# Altium integrated library TI_Logic_Little_Logic.IntLib: 1164 symbols (part 12 of 35)
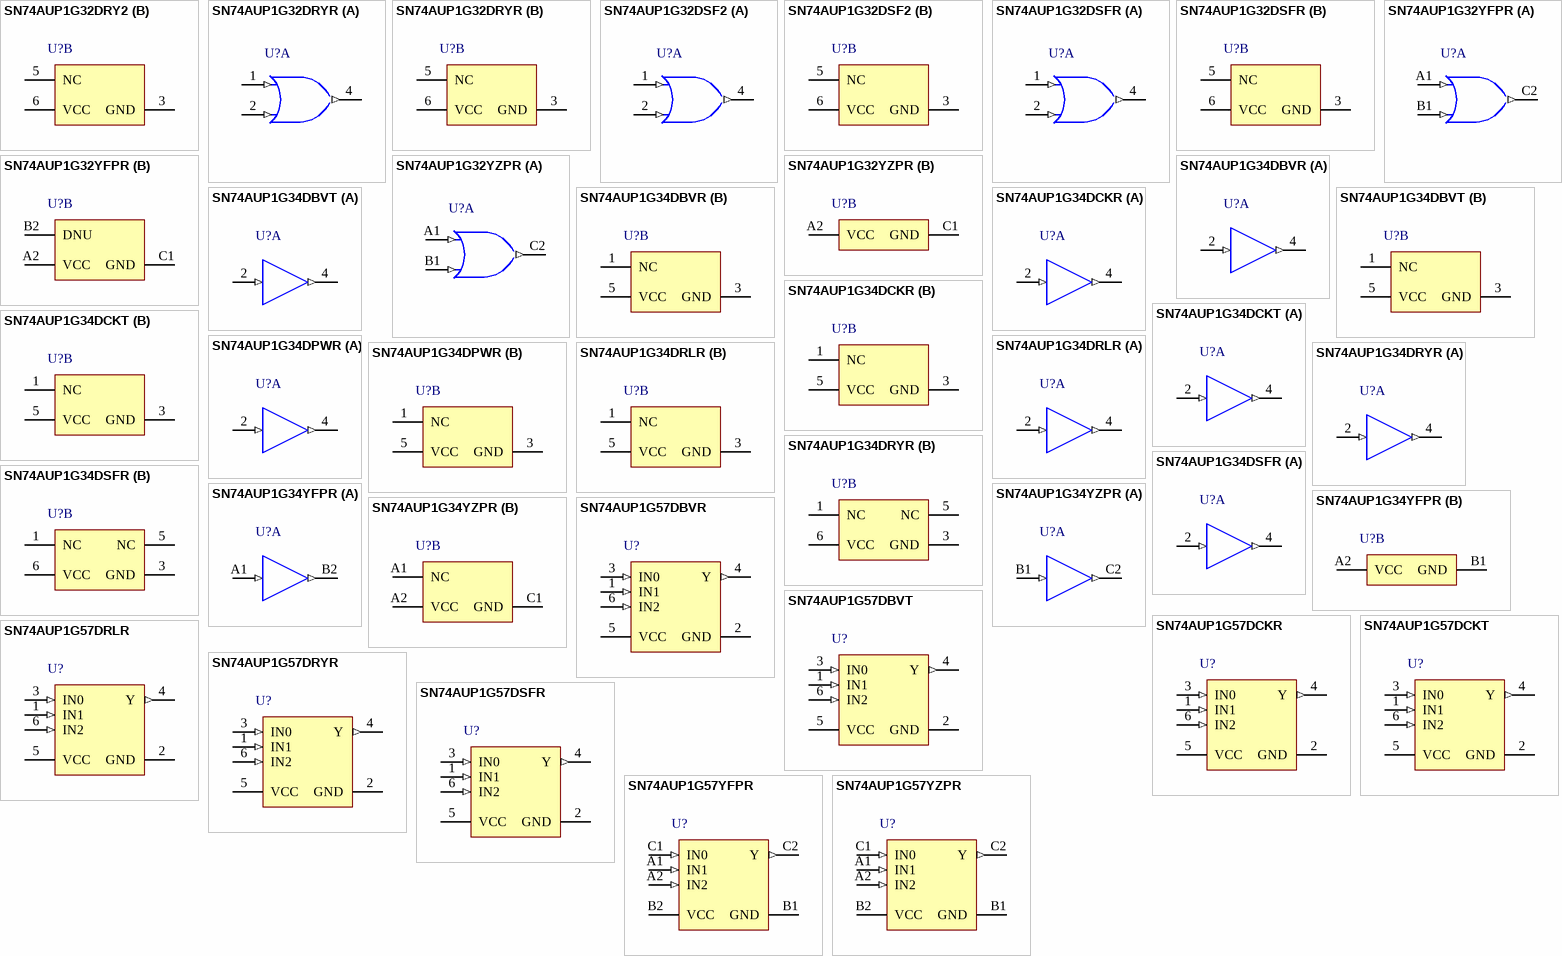
[diagram p71: symbols SN74AUP1G32DRY2 to SN74AUP1G57YZPR]

## SN74AUP1G32YFPR
designator U?
Low-Power Single 2-Input Positive-OR Gate, YZP0006AAAA, LARGE T&R; Generic Part Number: SN74AUP1G32; Manufacturer: Texas Instruments; PartNumber: SN74AUP1G32YFPR; VCC(Min)(V): 0.8; VCC(Max)(V): 3.6; Output Type: CMOS; ICC @ Nom Voltage(Max)(mA): 0.0009; Bits(#): 1; F @ Nom Voltage(Max)(Mhz): 100; Rating: Catalog; Technology Family: AUP; Voltage(Nom)(V): 0.8,1.2,1.5,1.8,2.5,3.3; Schmitt Trigger: No; Output Drive (IOL/IOH)(Max)(mA): 20/-20; tpd @ Nom Voltage(Max)(ns): 32.8,21.6,14.6,11.4,7.9,6.4; Logic: True; Gate Type: OR; Sub-Family: OR Gate; DatasheetVersion: SCES580I; PackageReference: YZP0006AAAA; Supplier 1: Mouser; Supplier Part Number 1: 595-SN74AUP1G32YFPR; Supplier 2: Digi-Key; Supplier Part Number 2: 296-25395-2-ND; Supplier 3: Digi-Key; Supplier Part Number 3: 296-25395-1-ND; Supplier 4: Digi-Key; Supplier Part Number 4: 296-25395-6-ND; Input Type: CMOS; Operating Temperature Range(C): -40 to 85; 3-State Output: No; ComponentLink1Description: Manufacturer URL; ComponentLink1URL: http://www.ti.com/; ComponentLink2Description: Datasheet; ComponentLink2URL: http://www.ti.com/lit/ds/symlink/sn74aup1g32.pdf
footprint YZP0006AAAA (BGA, 6-Balls, Body 1.16x0.76mm, Pitch 0.4mm)
part A pins: A1 A (in) "Input A", B1 B (in) "Input B", C2 Y (out) "Output Y"
part B pins: A2 VCC (power) "Power Pin", B2 DNU "Do not use", C1 GND (power) "Ground"

## SN74AUP1G32YZPR
designator U?
Low-Power Single 2-Input Positive-OR Gate, YZP0005ADAD, LARGE T&R; Generic Part Number: SN74AUP1G32; Manufacturer: Texas Instruments; PartNumber: SN74AUP1G32YZPR; VCC(Min)(V): 0.8; VCC(Max)(V): 3.6; Output Type: CMOS; ICC @ Nom Voltage(Max)(mA): 0.0009; Bits(#): 1; F @ Nom Voltage(Max)(Mhz): 100; Rating: Catalog; Technology Family: AUP; Voltage(Nom)(V): 0.8,1.2,1.5,1.8,2.5,3.3; Schmitt Trigger: No; Output Drive (IOL/IOH)(Max)(mA): 20/-20; tpd @ Nom Voltage(Max)(ns): 32.8,21.6,14.6,11.4,7.9,6.4; Logic: True; Gate Type: OR; Sub-Family: OR Gate; DatasheetVersion: SCES580I; PackageReference: YZP0005ADAD; Supplier 1: Mouser; Supplier Part Number 1: 595-SN74AUP1G32YZPR; Supplier 2: Digi-Key; Supplier Part Number 2: 296-21016-2-ND; Supplier 3: Digi-Key; Supplier Part Number 3: 296-21016-1-ND; Supplier 4: Digi-Key; Supplier Part Number 4: 296-21016-6-ND; Input Type: CMOS; Operating Temperature Range(C): -40 to 85; 3-State Output: No; ComponentLink1Description: Manufacturer URL; ComponentLink1URL: http://www.ti.com/; ComponentLink2Description: Datasheet; ComponentLink2URL: http://www.ti.com/lit/ds/symlink/sn74aup1g32.pdf
footprint YZP0005ADAD (BGA, 5-Balls, Body 1.39x0.89mm, Pitch 0.5mm)
part A pins: A1 A (in), B1 B (in), C2 Y (out)
part B pins: A2 VCC (power), C1 GND (power)

## SN74AUP1G34DBVR
designator U?
Low-Power Single Buffer Gate, DBV0005A, LARGE T&R; Generic Part Number: SN74AUP1G34; Manufacturer: Texas Instruments; PartNumber: SN74AUP1G34DBVR; VCC(Min)(V): 0.8; VCC(Max)(V): 3.6; Output Type: CMOS; ICC @ Nom Voltage(Max)(mA): 0.0009; Bits(#): 1; F @ Nom Voltage(Max)(Mhz): 100; Rating: Catalog; Technology Family: AUP; Voltage(Nom)(V): 0.8,1.2,1.5,1.8,2.5,3.3; Schmitt Trigger: No; Output Drive (IOL/IOH)(Max)(mA): 20/-20; tpd @ Nom Voltage(Max)(ns): 36.3,16.3,11,9.3,6.4,5.3; Logic: True; Sub-Family: Non-Inverting Buffer/Driver; DatasheetVersion: SCES603K; PackageReference: DBV0005A; Supplier 1: Mouser; Supplier Part Number 1: 595-SN74AUP1G34DBVR; Supplier 2: Digi-Key; Supplier Part Number 2: 296-19080-2-ND; Supplier 3: Digi-Key; Supplier Part Number 3: 296-19080-1-ND; Supplier 4: Digi-Key; Supplier Part Number 4: 296-19080-6-ND; Input Type: CMOS; Operating Temperature Range(C): -40 to 85; 3-State Output: No; ComponentLink1Description: Manufacturer URL; ComponentLink1URL: http://www.ti.com/; ComponentLink2Description: Datasheet; ComponentLink2URL: http://www.ti.com/lit/ds/symlink/sn74aup1g34.pdf
footprint DBV0005A_N (SOT23, 5-Leads, Body 3.05x1.75mm, Pitch 0.95mm, IPC Medium Density)
footprint DBV0005A_M (SOT23, 5-Leads, Body 3.05x1.75mm, Pitch 0.95mm, IPC Low Density)
footprint DBV0005A_L (SOT23, 5-Leads, Body 3.05x1.75mm, Pitch 0.95mm, IPC High Density)
part A pins: 2 A (in) "Input", 4 Y (out) "Output"
part B pins: 1 NC "Ground", 3 GND (power) "Ground Pin", 5 VCC (power) "Power Pin"

## SN74AUP1G34DBVT
designator U?
Low-Power Single Buffer Gate, DBV0005A, SMALL T&R; Generic Part Number: SN74AUP1G34; Manufacturer: Texas Instruments; PartNumber: SN74AUP1G34DBVT; VCC(Min)(V): 0.8; VCC(Max)(V): 3.6; Output Type: CMOS; ICC @ Nom Voltage(Max)(mA): 0.0009; Bits(#): 1; F @ Nom Voltage(Max)(Mhz): 100; Rating: Catalog; Technology Family: AUP; Voltage(Nom)(V): 0.8,1.2,1.5,1.8,2.5,3.3; Schmitt Trigger: No; Output Drive (IOL/IOH)(Max)(mA): 20/-20; tpd @ Nom Voltage(Max)(ns): 36.3,16.3,11,9.3,6.4,5.3; Logic: True; Sub-Family: Non-Inverting Buffer/Driver; DatasheetVersion: SCES603K; PackageReference: DBV0005A; Supplier 1: Mouser; Supplier Part Number 1: 595-SN74AUP1G34DBVT; Input Type: CMOS; Operating Temperature Range(C): -40 to 85; 3-State Output: No; ComponentLink1Description: Manufacturer URL; ComponentLink1URL: http://www.ti.com/; ComponentLink2Description: Datasheet; ComponentLink2URL: http://www.ti.com/lit/ds/symlink/sn74aup1g34.pdf
footprint DBV0005A_N (SOT23, 5-Leads, Body 3.05x1.75mm, Pitch 0.95mm, IPC Medium Density)
footprint DBV0005A_M (SOT23, 5-Leads, Body 3.05x1.75mm, Pitch 0.95mm, IPC Low Density)
footprint DBV0005A_L (SOT23, 5-Leads, Body 3.05x1.75mm, Pitch 0.95mm, IPC High Density)
part A pins: 2 A (in) "Input", 4 Y (out) "Output"
part B pins: 1 NC "Ground", 3 GND (power) "Ground Pin", 5 VCC (power) "Power Pin"

## SN74AUP1G34DCKR
designator U?
Low-Power Single Buffer Gate, DCK0005A, LARGE T&R; Generic Part Number: SN74AUP1G34; Manufacturer: Texas Instruments; PartNumber: SN74AUP1G34DCKR; VCC(Min)(V): 0.8; VCC(Max)(V): 3.6; Output Type: CMOS; ICC @ Nom Voltage(Max)(mA): 0.0009; Bits(#): 1; F @ Nom Voltage(Max)(Mhz): 100; Rating: Catalog; Technology Family: AUP; Voltage(Nom)(V): 0.8,1.2,1.5,1.8,2.5,3.3; Schmitt Trigger: No; Output Drive (IOL/IOH)(Max)(mA): 20/-20; tpd @ Nom Voltage(Max)(ns): 36.3,16.3,11,9.3,6.4,5.3; Logic: True; Sub-Family: Non-Inverting Buffer/Driver; DatasheetVersion: SCES603K; PackageReference: DCK0005A; Supplier 1: Mouser; Supplier Part Number 1: 595-SN74AUP1G34DCKR; Supplier 2: Digi-Key; Supplier Part Number 2: 296-19081-2-ND; Supplier 3: Digi-Key; Supplier Part Number 3: 296-19081-1-ND; Supplier 4: Digi-Key; Supplier Part Number 4: 296-19081-6-ND; Input Type: CMOS; Operating Temperature Range(C): -40 to 85; 3-State Output: No; ComponentLink1Description: Manufacturer URL; ComponentLink1URL: http://www.ti.com/; ComponentLink2Description: Datasheet; ComponentLink2URL: http://www.ti.com/lit/ds/symlink/sn74aup1g34.pdf
footprint DCK0005A_N (SOT23, 5-Leads, Body 2.15x1.4mm, Pitch 0.65mm, IPC Medium Density)
footprint DCK0005A_M (SOT23, 5-Leads, Body 2.15x1.4mm, Pitch 0.65mm, IPC Low Density)
footprint DCK0005A_L (SOT23, 5-Leads, Body 2.15x1.4mm, Pitch 0.65mm, IPC High Density)
part A pins: 2 A (in) "Input", 4 Y (out) "Output"
part B pins: 1 NC "Ground", 3 GND (power) "Ground Pin", 5 VCC (power) "Power Pin"

## SN74AUP1G34DCKT
designator U?
Low-Power Single Buffer Gate, DCK0005A, SMALL T&R; Generic Part Number: SN74AUP1G34; Manufacturer: Texas Instruments; PartNumber: SN74AUP1G34DCKT; VCC(Min)(V): 0.8; VCC(Max)(V): 3.6; Output Type: CMOS; ICC @ Nom Voltage(Max)(mA): 0.0009; Bits(#): 1; F @ Nom Voltage(Max)(Mhz): 100; Rating: Catalog; Technology Family: AUP; Voltage(Nom)(V): 0.8,1.2,1.5,1.8,2.5,3.3; Schmitt Trigger: No; Output Drive (IOL/IOH)(Max)(mA): 20/-20; tpd @ Nom Voltage(Max)(ns): 36.3,16.3,11,9.3,6.4,5.3; Logic: True; Sub-Family: Non-Inverting Buffer/Driver; DatasheetVersion: SCES603K; PackageReference: DCK0005A; Supplier 1: Mouser; Supplier Part Number 1: 595-SN74AUP1G34DCKT; Supplier 2: Digi-Key; Supplier Part Number 2: SN74AUP1G34DCKT-ND; Input Type: CMOS; Operating Temperature Range(C): -40 to 85; 3-State Output: No; ComponentLink1Description: Manufacturer URL; ComponentLink1URL: http://www.ti.com/; ComponentLink2Description: Datasheet; ComponentLink2URL: http://www.ti.com/lit/ds/symlink/sn74aup1g34.pdf
footprint DCK0005A_N (SOT23, 5-Leads, Body 2.15x1.4mm, Pitch 0.65mm, IPC Medium Density)
footprint DCK0005A_M (SOT23, 5-Leads, Body 2.15x1.4mm, Pitch 0.65mm, IPC Low Density)
footprint DCK0005A_L (SOT23, 5-Leads, Body 2.15x1.4mm, Pitch 0.65mm, IPC High Density)
part A pins: 2 A (in) "Input", 4 Y (out) "Output"
part B pins: 1 NC "Ground", 3 GND (power) "Ground Pin", 5 VCC (power) "Power Pin"

## SN74AUP1G34DPWR
designator U?
Low-Power Single Buffer Gate, DPW0004A, LARGE T&R; Generic Part Number: SN74AUP1G34; Manufacturer: Texas Instruments; PartNumber: SN74AUP1G34DPWR; VCC(Min)(V): 0.8; VCC(Max)(V): 3.6; Output Type: CMOS; ICC @ Nom Voltage(Max)(mA): 0.0009; Bits(#): 1; F @ Nom Voltage(Max)(Mhz): 100; Rating: Catalog; Technology Family: AUP; Voltage(Nom)(V): 0.8,1.2,1.5,1.8,2.5,3.3; Schmitt Trigger: No; Output Drive (IOL/IOH)(Max)(mA): 20/-20; tpd @ Nom Voltage(Max)(ns): 36.3,16.3,11,9.3,6.4,5.3; Logic: True; Sub-Family: Non-Inverting Buffer/Driver; DatasheetVersion: SCES603K; PackageReference: DPW0004A; Supplier 1: Mouser; Supplier Part Number 1: 595-SN74AUP1G34DPWR; Supplier 2: Digi-Key; Supplier Part Number 2: 296-38023-2-ND; Supplier 3: Digi-Key; Supplier Part Number 3: 296-38023-1-ND; Supplier 4: Digi-Key; Supplier Part Number 4: 296-38023-6-ND; Input Type: CMOS; Operating Temperature Range(C): -40 to 85; 3-State Output: No; ComponentLink1Description: Manufacturer URL; ComponentLink1URL: http://www.ti.com/; ComponentLink2Description: Datasheet; ComponentLink2URL: http://www.ti.com/lit/ds/symlink/sn74aup1g34.pdf
footprint DPW0004A_V (SON, 5-Leads, Body 0.8x0.8mm, TI Recommend)
part A pins: 2 A (in) "Input", 4 Y (out) "Output"
part B pins: 1 NC "Ground", 3 GND (power) "Ground Pin", 5 VCC (power) "Power Pin"

## SN74AUP1G34DRLR
designator U?
Low-Power Single Buffer Gate, DRL0005A, LARGE T&R; Generic Part Number: SN74AUP1G34; Manufacturer: Texas Instruments; PartNumber: SN74AUP1G34DRLR; VCC(Min)(V): 0.8; VCC(Max)(V): 3.6; Output Type: CMOS; ICC @ Nom Voltage(Max)(mA): 0.0009; Bits(#): 1; F @ Nom Voltage(Max)(Mhz): 100; Rating: Catalog; Technology Family: AUP; Voltage(Nom)(V): 0.8,1.2,1.5,1.8,2.5,3.3; Schmitt Trigger: No; Output Drive (IOL/IOH)(Max)(mA): 20/-20; tpd @ Nom Voltage(Max)(ns): 36.3,16.3,11,9.3,6.4,5.3; Logic: True; Sub-Family: Non-Inverting Buffer/Driver; DatasheetVersion: SCES603K; PackageReference: DRL0005A; Supplier 1: Mouser; Supplier Part Number 1: 595-SN74AUP1G34DRLR; Supplier 2: Digi-Key; Supplier Part Number 2: 296-18715-2-ND; Supplier 3: Digi-Key; Supplier Part Number 3: 296-18715-1-ND; Supplier 4: Digi-Key; Supplier Part Number 4: 296-18715-6-ND; Input Type: CMOS; Operating Temperature Range(C): -40 to 85; 3-State Output: No; ComponentLink1Description: Manufacturer URL; ComponentLink1URL: http://www.ti.com/; ComponentLink2Description: Datasheet; ComponentLink2URL: http://www.ti.com/lit/ds/symlink/sn74aup1g34.pdf
footprint DRL0005A_N (SOT23, 5-Leads, Body 1.7x1.3mm, Pitch 0.5mm, IPC Medium Density)
footprint DRL0005A_M (SOT23, 5-Leads, Body 1.7x1.3mm, Pitch 0.5mm, IPC Low Density)
footprint DRL0005A_L (SOT23, 5-Leads, Body 1.7x1.3mm, Pitch 0.5mm, IPC High Density)
part A pins: 2 A (in) "Input", 4 Y (out) "Output"
part B pins: 1 NC "Ground", 3 GND (power) "Ground Pin", 5 VCC (power) "Power Pin"

## SN74AUP1G34DRYR
designator U?
Low-Power Single Buffer Gate, DRY0006A, LARGE T&R; Generic Part Number: SN74AUP1G34; Manufacturer: Texas Instruments; PartNumber: SN74AUP1G34DRYR; VCC(Min)(V): 0.8; VCC(Max)(V): 3.6; Output Type: CMOS; ICC @ Nom Voltage(Max)(mA): 0.0009; Bits(#): 1; F @ Nom Voltage(Max)(Mhz): 100; Rating: Catalog; Technology Family: AUP; Voltage(Nom)(V): 0.8,1.2,1.5,1.8,2.5,3.3; Schmitt Trigger: No; Output Drive (IOL/IOH)(Max)(mA): 20/-20; tpd @ Nom Voltage(Max)(ns): 36.3,16.3,11,9.3,6.4,5.3; Logic: True; Sub-Family: Non-Inverting Buffer/Driver; DatasheetVersion: SCES603K; PackageReference: DRY0006A; Supplier 1: Mouser; Supplier Part Number 1: 595-SN74AUP1G34DRYR; Supplier 2: Digi-Key; Supplier Part Number 2: 296-27380-2-ND; Supplier 3: Digi-Key; Supplier Part Number 3: 296-27380-1-ND; Supplier 4: Digi-Key; Supplier Part Number 4: 296-27380-6-ND; Input Type: CMOS; Operating Temperature Range(C): -40 to 85; 3-State Output: No; ComponentLink1Description: Manufacturer URL; ComponentLink1URL: http://www.ti.com/; ComponentLink2Description: Datasheet; ComponentLink2URL: http://www.ti.com/lit/ds/symlink/sn74aup1g34.pdf
footprint DRY0006A_V (SON, 6-Leads, Body 1.45x1mm, Pitch 0.5mm)
part A pins: 2 A (in) "Input", 4 Y (out) "Output"
part B pins: 1 NC "Not connected", 3 GND (power) "Ground", 5 NC "Not connected", 6 VCC (power) "Power pin"

## SN74AUP1G34DSFR
designator U?
Low-Power Single Buffer Gate, DSF0006A, LARGE T&R; Generic Part Number: SN74AUP1G34; Manufacturer: Texas Instruments; PartNumber: SN74AUP1G34DSFR; VCC(Min)(V): 0.8; VCC(Max)(V): 3.6; Output Type: CMOS; ICC @ Nom Voltage(Max)(mA): 0.0009; Bits(#): 1; F @ Nom Voltage(Max)(Mhz): 100; Rating: Catalog; Technology Family: AUP; Voltage(Nom)(V): 0.8,1.2,1.5,1.8,2.5,3.3; Schmitt Trigger: No; Output Drive (IOL/IOH)(Max)(mA): 20/-20; tpd @ Nom Voltage(Max)(ns): 36.3,16.3,11,9.3,6.4,5.3; Logic: True; Sub-Family: Non-Inverting Buffer/Driver; DatasheetVersion: SCES603K; PackageReference: DSF0006A; Supplier 1: Mouser; Supplier Part Number 1: 595-SN74AUP1G34DSFR; Supplier 2: Digi-Key; Supplier Part Number 2: 296-27276-2-ND; Supplier 3: Digi-Key; Supplier Part Number 3: 296-27276-1-ND; Supplier 4: Digi-Key; Supplier Part Number 4: 296-27276-6-ND; Input Type: CMOS; Operating Temperature Range(C): -40 to 85; 3-State Output: No; ComponentLink1Description: Manufacturer URL; ComponentLink1URL: http://www.ti.com/; ComponentLink2Description: Datasheet; ComponentLink2URL: http://www.ti.com/lit/ds/symlink/sn74aup1g34.pdf
footprint DSF0006A_V (SON, 6-Leads, Body 1x1mm, Pitch 0.35mm, TI Recommend)
part A pins: 2 A (in) "Input", 4 Y (out) "Output"
part B pins: 1 NC "Not connected", 3 GND (power) "Ground", 5 NC "Not connected", 6 VCC (power) "Power pin"

## SN74AUP1G34YFPR
designator U?
Low-Power Single Buffer Gate, YZP0004AAAA, LARGE T&R; Generic Part Number: SN74AUP1G34; Manufacturer: Texas Instruments; PartNumber: SN74AUP1G34YFPR; VCC(Min)(V): 0.8; VCC(Max)(V): 3.6; Output Type: CMOS; ICC @ Nom Voltage(Max)(mA): 0.0009; Bits(#): 1; F @ Nom Voltage(Max)(Mhz): 100; Rating: Catalog; Technology Family: AUP; Voltage(Nom)(V): 0.8,1.2,1.5,1.8,2.5,3.3; Schmitt Trigger: No; Output Drive (IOL/IOH)(Max)(mA): 20/-20; tpd @ Nom Voltage(Max)(ns): 36.3,16.3,11,9.3,6.4,5.3; Logic: True; Sub-Family: Non-Inverting Buffer/Driver; DatasheetVersion: SCES603K; PackageReference: YZP0004AAAA; Supplier 1: Mouser; Supplier Part Number 1: 595-SN74AUP1G34YFPR; Supplier 2: Digi-Key; Supplier Part Number 2: 296-25201-2-ND; Supplier 3: Digi-Key; Supplier Part Number 3: 296-25201-1-ND; Supplier 4: Digi-Key; Supplier Part Number 4: 296-25201-6-ND; Input Type: CMOS; Operating Temperature Range(C): -40 to 85; 3-State Output: No; ComponentLink1Description: Manufacturer URL; ComponentLink1URL: http://www.ti.com/; ComponentLink2Description: Datasheet; ComponentLink2URL: http://www.ti.com/lit/ds/symlink/sn74aup1g34.pdf
footprint YZP0004AAAA (BGA, 4-Balls, Body 0.76x0.76mm, Pitch 0.4mm)
part A pins: A1 A (in) "Input", B2 Y (out) "Output"
part B pins: A2 VCC (power) "Power pin", B1 GND (power) "Ground"

## SN74AUP1G34YZPR
designator U?
Low-Power Single Buffer Gate, YZP0005ADAD, LARGE T&R; Generic Part Number: SN74AUP1G34; Manufacturer: Texas Instruments; PartNumber: SN74AUP1G34YZPR; VCC(Min)(V): 0.8; VCC(Max)(V): 3.6; Output Type: CMOS; ICC @ Nom Voltage(Max)(mA): 0.0009; Bits(#): 1; F @ Nom Voltage(Max)(Mhz): 100; Rating: Catalog; Technology Family: AUP; Voltage(Nom)(V): 0.8,1.2,1.5,1.8,2.5,3.3; Schmitt Trigger: No; Output Drive (IOL/IOH)(Max)(mA): 20/-20; tpd @ Nom Voltage(Max)(ns): 36.3,16.3,11,9.3,6.4,5.3; Logic: True; Sub-Family: Non-Inverting Buffer/Driver; DatasheetVersion: SCES603K; PackageReference: YZP0005ADAD; Supplier 1: Mouser; Supplier Part Number 1: 595-SN74AUP1G34YZPR; Supplier 2: Digi-Key; Supplier Part Number 2: 296-21017-2-ND; Supplier 3: Digi-Key; Supplier Part Number 3: 296-21017-1-ND; Supplier 4: Digi-Key; Supplier Part Number 4: 296-21017-6-ND; Input Type: CMOS; Operating Temperature Range(C): -40 to 85; 3-State Output: No; ComponentLink1Description: Manufacturer URL; ComponentLink1URL: http://www.ti.com/; ComponentLink2Description: Datasheet; ComponentLink2URL: http://www.ti.com/lit/ds/symlink/sn74aup1g34.pdf
footprint YZP0005ADAD (BGA, 5-Balls, Body 1.39x0.89mm, Pitch 0.5mm)
part A pins: B1 A (in) "Input A", C2 Y (out) "Output Y"
part B pins: A1 NC "No connect", A2 VCC (power) "Power Pin", C1 GND (power) "Ground"

## SN74AUP1G57DBVR
designator U?
Low-Power Configurable Multiple-Function Gate, DBV0006A, LARGE T&R; Generic Part Number: SN74AUP1G57; Manufacturer: Texas Instruments; PartNumber: SN74AUP1G57DBVR; VCC(Min)(V): 0.8; VCC(Max)(V): 3.6; Output Type: CMOS; ICC @ Nom Voltage(Max)(mA): 0.0009; Bits(#): 1; F @ Nom Voltage(Max)(Mhz): 100; Rating: Catalog; Technology Family: AUP; Voltage(Nom)(V): 0.8,1.2,1.5,1.8,2.5,3.3; Schmitt Trigger: No; Output Drive (IOL/IOH)(Max)(mA): 20/-20; tpd @ Nom Voltage(Max)(ns): 49.3,21.4,14.4,11.4,8.4,7; Logic: True; Sub-Family: Configurable Logic; DatasheetVersion: SCES503I; PackageReference: DBV0006A; Supplier 1: Mouser; Supplier Part Number 1: 595-SN74AUP1G57DBVR; Supplier 2: Digi-Key; Supplier Part Number 2: 296-19082-2-ND; Supplier 3: Digi-Key; Supplier Part Number 3: 296-19082-1-ND; Supplier 4: Digi-Key; Supplier Part Number 4: 296-19082-6-ND; Input Type: CMOS; Operating Temperature Range(C): -40 to 85; Gate Type: Configurable; 3-State Output: No; ComponentLink1Description: Manufacturer URL; ComponentLink1URL: http://www.ti.com/; ComponentLink2Description: Datasheet; ComponentLink2URL: http://www.ti.com/lit/ds/symlink/sn74aup1g57.pdf
footprint DBV0006A_N (SOT23, 6-Leads, Body 3.05x1.75mm, Pitch 0.95mm, IPC Medium Density)
footprint DBV0006A_M (SOT23, 6-Leads, Body 3.05x1.75mm, Pitch 0.95mm, IPC Low Density)
footprint DBV0006A_L (SOT23, 6-Leads, Body 3.05x1.75mm, Pitch 0.95mm, IPC High Density)
pins: 1 IN1 (in), 2 GND (power), 3 IN0 (in), 4 Y (out), 5 VCC (power), 6 IN2 (in)

## SN74AUP1G57DBVT
designator U?
Low-Power Configurable Multiple-Function Gate, DBV0006A, SMALL T&R; Generic Part Number: SN74AUP1G57; Manufacturer: Texas Instruments; PartNumber: SN74AUP1G57DBVT; VCC(Min)(V): 0.8; VCC(Max)(V): 3.6; Output Type: CMOS; ICC @ Nom Voltage(Max)(mA): 0.0009; Bits(#): 1; F @ Nom Voltage(Max)(Mhz): 100; Rating: Catalog; Technology Family: AUP; Voltage(Nom)(V): 0.8,1.2,1.5,1.8,2.5,3.3; Schmitt Trigger: No; Output Drive (IOL/IOH)(Max)(mA): 20/-20; tpd @ Nom Voltage(Max)(ns): 49.3,21.4,14.4,11.4,8.4,7; Logic: True; Sub-Family: Configurable Logic; DatasheetVersion: SCES503I; PackageReference: DBV0006A; Supplier 1: Mouser; Supplier Part Number 1: 595-SN74AUP1G57DBVT; Supplier 2: Digi-Key; Supplier Part Number 2: SN74AUP1G57DBVT-ND; Input Type: CMOS; Operating Temperature Range(C): -40 to 85; Gate Type: Configurable; 3-State Output: No; ComponentLink1Description: Manufacturer URL; ComponentLink1URL: http://www.ti.com/; ComponentLink2Description: Datasheet; ComponentLink2URL: http://www.ti.com/lit/ds/symlink/sn74aup1g57.pdf
footprint DBV0006A_N (SOT23, 6-Leads, Body 3.05x1.75mm, Pitch 0.95mm, IPC Medium Density)
footprint DBV0006A_M (SOT23, 6-Leads, Body 3.05x1.75mm, Pitch 0.95mm, IPC Low Density)
footprint DBV0006A_L (SOT23, 6-Leads, Body 3.05x1.75mm, Pitch 0.95mm, IPC High Density)
pins: 1 IN1 (in), 2 GND (power), 3 IN0 (in), 4 Y (out), 5 VCC (power), 6 IN2 (in)

## SN74AUP1G57DCKR
designator U?
Low-Power Configurable Multiple-Function Gate, DCK0006A, LARGE T&R; Generic Part Number: SN74AUP1G57; Manufacturer: Texas Instruments; PartNumber: SN74AUP1G57DCKR; VCC(Min)(V): 0.8; VCC(Max)(V): 3.6; Output Type: CMOS; ICC @ Nom Voltage(Max)(mA): 0.0009; Bits(#): 1; F @ Nom Voltage(Max)(Mhz): 100; Rating: Catalog; Technology Family: AUP; Voltage(Nom)(V): 0.8,1.2,1.5,1.8,2.5,3.3; Schmitt Trigger: No; Output Drive (IOL/IOH)(Max)(mA): 20/-20; tpd @ Nom Voltage(Max)(ns): 49.3,21.4,14.4,11.4,8.4,7; Logic: True; Sub-Family: Configurable Logic; DatasheetVersion: SCES503I; PackageReference: DCK0006A; Supplier 1: Mouser; Supplier Part Number 1: 595-SN74AUP1G57DCKR; Supplier 2: Digi-Key; Supplier Part Number 2: 296-19083-2-ND; Supplier 3: Digi-Key; Supplier Part Number 3: 296-19083-1-ND; Supplier 4: Digi-Key; Supplier Part Number 4: 296-19083-6-ND; Input Type: CMOS; Operating Temperature Range(C): -40 to 85; Gate Type: Configurable; 3-State Output: No; ComponentLink1Description: Manufacturer URL; ComponentLink1URL: http://www.ti.com/; ComponentLink2Description: Datasheet; ComponentLink2URL: http://www.ti.com/lit/ds/symlink/sn74aup1g57.pdf
footprint DCK0006A_N (SOT23, 6-Leads, Body 2.15x1.4mm, Pitch 0.65mm, IPC Medium Density)
footprint DCK0006A_M (SOT23, 6-Leads, Body 2.15x1.4mm, Pitch 0.65mm, IPC Low Density)
footprint DCK0006A_L (SOT23, 6-Leads, Body 2.15x1.4mm, Pitch 0.65mm, IPC High Density)
pins: 1 IN1 (in), 2 GND (power), 3 IN0 (in), 4 Y (out), 5 VCC (power), 6 IN2 (in)

## SN74AUP1G57DCKT
designator U?
Low-Power Configurable Multiple-Function Gate, DCK0006A, SMALL T&R; Generic Part Number: SN74AUP1G57; Manufacturer: Texas Instruments; PartNumber: SN74AUP1G57DCKT; VCC(Min)(V): 0.8; VCC(Max)(V): 3.6; Output Type: CMOS; ICC @ Nom Voltage(Max)(mA): 0.0009; Bits(#): 1; F @ Nom Voltage(Max)(Mhz): 100; Rating: Catalog; Technology Family: AUP; Voltage(Nom)(V): 0.8,1.2,1.5,1.8,2.5,3.3; Schmitt Trigger: No; Output Drive (IOL/IOH)(Max)(mA): 20/-20; tpd @ Nom Voltage(Max)(ns): 49.3,21.4,14.4,11.4,8.4,7; Logic: True; Sub-Family: Configurable Logic; DatasheetVersion: SCES503I; PackageReference: DCK0006A; Supplier 1: Mouser; Supplier Part Number 1: 595-SN74AUP1G57DCKT; Supplier 2: Digi-Key; Supplier Part Number 2: SN74AUP1G57DCKT-ND; Input Type: CMOS; Operating Temperature Range(C): -40 to 85; Gate Type: Configurable; 3-State Output: No; ComponentLink1Description: Manufacturer URL; ComponentLink1URL: http://www.ti.com/; ComponentLink2Description: Datasheet; ComponentLink2URL: http://www.ti.com/lit/ds/symlink/sn74aup1g57.pdf
footprint DCK0006A_N (SOT23, 6-Leads, Body 2.15x1.4mm, Pitch 0.65mm, IPC Medium Density)
footprint DCK0006A_M (SOT23, 6-Leads, Body 2.15x1.4mm, Pitch 0.65mm, IPC Low Density)
footprint DCK0006A_L (SOT23, 6-Leads, Body 2.15x1.4mm, Pitch 0.65mm, IPC High Density)
pins: 1 IN1 (in), 2 GND (power), 3 IN0 (in), 4 Y (out), 5 VCC (power), 6 IN2 (in)

## SN74AUP1G57DRLR
designator U?
Low-Power Configurable Multiple-Function Gate, DRL0006A, LARGE T&R; Generic Part Number: SN74AUP1G57; Manufacturer: Texas Instruments; PartNumber: SN74AUP1G57DRLR; VCC(Min)(V): 0.8; VCC(Max)(V): 3.6; Output Type: CMOS; ICC @ Nom Voltage(Max)(mA): 0.0009; Bits(#): 1; F @ Nom Voltage(Max)(Mhz): 100; Rating: Catalog; Technology Family: AUP; Voltage(Nom)(V): 0.8,1.2,1.5,1.8,2.5,3.3; Schmitt Trigger: No; Output Drive (IOL/IOH)(Max)(mA): 20/-20; tpd @ Nom Voltage(Max)(ns): 49.3,21.4,14.4,11.4,8.4,7; Logic: True; Sub-Family: Configurable Logic; DatasheetVersion: SCES503I; PackageReference: DRL0006A; Supplier 1: Mouser; Supplier Part Number 1: 595-SN74AUP1G57DRLR; Supplier 2: Digi-Key; Supplier Part Number 2: 296-18716-2-ND; Supplier 3: Digi-Key; Supplier Part Number 3: 296-18716-1-ND; Supplier 4: Digi-Key; Supplier Part Number 4: 296-18716-6-ND; Input Type: CMOS; Operating Temperature Range(C): -40 to 85; Gate Type: Configurable; 3-State Output: No; ComponentLink1Description: Manufacturer URL; ComponentLink1URL: http://www.ti.com/; ComponentLink2Description: Datasheet; ComponentLink2URL: http://www.ti.com/lit/ds/symlink/sn74aup1g57.pdf
footprint DRL0006A_N (SOT23, 6-Leads, Body 1.7x1.3mm, Pitch 0.5mm, IPC Medium Density)
footprint DRL0006A_M (SOT23, 6-Leads, Body 1.7x1.3mm, Pitch 0.5mm, IPC Low Density)
footprint DRL0006A_L (SOT23, 6-Leads, Body 1.7x1.3mm, Pitch 0.5mm, IPC High Density)
pins: 1 IN1 (in), 2 GND (power), 3 IN0 (in), 4 Y (out), 5 VCC (power), 6 IN2 (in)

## SN74AUP1G57DRYR
designator U?
Low-Power Configurable Multiple-Function Gate, DRY0006A, LARGE T&R; Generic Part Number: SN74AUP1G57; Manufacturer: Texas Instruments; PartNumber: SN74AUP1G57DRYR; VCC(Min)(V): 0.8; VCC(Max)(V): 3.6; Output Type: CMOS; ICC @ Nom Voltage(Max)(mA): 0.0009; Bits(#): 1; F @ Nom Voltage(Max)(Mhz): 100; Rating: Catalog; Technology Family: AUP; Voltage(Nom)(V): 0.8,1.2,1.5,1.8,2.5,3.3; Schmitt Trigger: No; Output Drive (IOL/IOH)(Max)(mA): 20/-20; tpd @ Nom Voltage(Max)(ns): 49.3,21.4,14.4,11.4,8.4,7; Logic: True; Sub-Family: Configurable Logic; DatasheetVersion: SCES503I; PackageReference: DRY0006A; Supplier 1: Mouser; Supplier Part Number 1: 595-SN74AUP1G57DRYR; Supplier 2: Digi-Key; Supplier Part Number 2: 296-27343-2-ND; Supplier 3: Digi-Key; Supplier Part Number 3: 296-27343-1-ND; Supplier 4: Digi-Key; Supplier Part Number 4: 296-27343-6-ND; Input Type: CMOS; Operating Temperature Range(C): -40 to 85; Gate Type: Configurable; 3-State Output: No; ComponentLink1Description: Manufacturer URL; ComponentLink1URL: http://www.ti.com/; ComponentLink2Description: Datasheet; ComponentLink2URL: http://www.ti.com/lit/ds/symlink/sn74aup1g57.pdf
footprint DRY0006A_V (SON, 6-Leads, Body 1.45x1mm, Pitch 0.5mm)
pins: 1 IN1 (in), 2 GND (power), 3 IN0 (in), 4 Y (out), 5 VCC (power), 6 IN2 (in)

## SN74AUP1G57DSFR
designator U?
Low-Power Configurable Multiple-Function Gate, DSF0006A, LARGE T&R; Generic Part Number: SN74AUP1G57; Manufacturer: Texas Instruments; PartNumber: SN74AUP1G57DSFR; VCC(Min)(V): 0.8; VCC(Max)(V): 3.6; Output Type: CMOS; ICC @ Nom Voltage(Max)(mA): 0.0009; Bits(#): 1; F @ Nom Voltage(Max)(Mhz): 100; Rating: Catalog; Technology Family: AUP; Voltage(Nom)(V): 0.8,1.2,1.5,1.8,2.5,3.3; Schmitt Trigger: No; Output Drive (IOL/IOH)(Max)(mA): 20/-20; tpd @ Nom Voltage(Max)(ns): 49.3,21.4,14.4,11.4,8.4,7; Logic: True; Sub-Family: Configurable Logic; DatasheetVersion: SCES503I; PackageReference: DSF0006A; Supplier 1: Mouser; Supplier Part Number 1: 595-SN74AUP1G57DSFR; Supplier 2: Digi-Key; Supplier Part Number 2: 296-27277-2-ND; Supplier 3: Digi-Key; Supplier Part Number 3: 296-27277-1-ND; Supplier 4: Digi-Key; Supplier Part Number 4: 296-27277-6-ND; Input Type: CMOS; Operating Temperature Range(C): -40 to 85; Gate Type: Configurable; 3-State Output: No; ComponentLink1Description: Manufacturer URL; ComponentLink1URL: http://www.ti.com/; ComponentLink2Description: Datasheet; ComponentLink2URL: http://www.ti.com/lit/ds/symlink/sn74aup1g57.pdf
footprint DSF0006A_V (SON, 6-Leads, Body 1x1mm, Pitch 0.35mm, TI Recommend)
pins: 1 IN1 (in), 2 GND (power), 3 IN0 (in), 4 Y (out), 5 VCC (power), 6 IN2 (in)

## SN74AUP1G57YFPR
designator U?
Low-Power Configurable Multiple-Function Gate, YZP0006AAAA, LARGE T&R; Generic Part Number: SN74AUP1G57; Manufacturer: Texas Instruments; PartNumber: SN74AUP1G57YFPR; VCC(Min)(V): 0.8; VCC(Max)(V): 3.6; Output Type: CMOS; ICC @ Nom Voltage(Max)(mA): 0.0009; Bits(#): 1; F @ Nom Voltage(Max)(Mhz): 100; Rating: Catalog; Technology Family: AUP; Voltage(Nom)(V): 0.8,1.2,1.5,1.8,2.5,3.3; Schmitt Trigger: No; Output Drive (IOL/IOH)(Max)(mA): 20/-20; tpd @ Nom Voltage(Max)(ns): 49.3,21.4,14.4,11.4,8.4,7; Logic: True; Sub-Family: Configurable Logic; DatasheetVersion: SCES503I; PackageReference: YZP0006AAAA; Supplier 1: Mouser; Supplier Part Number 1: 595-SN74AUP1G57YFPR; Supplier 2: Digi-Key; Supplier Part Number 2: 296-25396-2-ND; Supplier 3: Digi-Key; Supplier Part Number 3: 296-25396-1-ND; Supplier 4: Digi-Key; Supplier Part Number 4: 296-25396-6-ND; Input Type: CMOS; Operating Temperature Range(C): -40 to 85; Gate Type: Configurable; 3-State Output: No; ComponentLink1Description: Manufacturer URL; ComponentLink1URL: http://www.ti.com/; ComponentLink2Description: Datasheet; ComponentLink2URL: http://www.ti.com/lit/ds/symlink/sn74aup1g57.pdf
footprint YZP0006AAAA (BGA, 6-Balls, Body 1.16x0.76mm, Pitch 0.4mm)
pins: A1 IN1 (in), A2 IN2 (in), B1 GND (power), B2 VCC (power), C1 IN0 (in), C2 Y (out)

## SN74AUP1G57YZPR
designator U?
Low-Power Configurable Multiple-Function Gate, YZP0006ADAD, LARGE T&R; Generic Part Number: SN74AUP1G57; Manufacturer: Texas Instruments; PartNumber: SN74AUP1G57YZPR; VCC(Min)(V): 0.8; VCC(Max)(V): 3.6; Output Type: CMOS; ICC @ Nom Voltage(Max)(mA): 0.0009; Bits(#): 1; F @ Nom Voltage(Max)(Mhz): 100; Rating: Catalog; Technology Family: AUP; Voltage(Nom)(V): 0.8,1.2,1.5,1.8,2.5,3.3; Schmitt Trigger: No; Output Drive (IOL/IOH)(Max)(mA): 20/-20; tpd @ Nom Voltage(Max)(ns): 49.3,21.4,14.4,11.4,8.4,7; Logic: True; Sub-Family: Configurable Logic; DatasheetVersion: SCES503I; PackageReference: YZP0006ADAD; Supplier 1: Mouser; Supplier Part Number 1: 595-SN74AUP1G57YZPR; Supplier 2: Digi-Key; Supplier Part Number 2: 296-17367-2-ND; Supplier 3: Digi-Key; Supplier Part Number 3: 296-17367-1-ND; Input Type: CMOS; Operating Temperature Range(C): -40 to 85; Gate Type: Configurable; 3-State Output: No; ComponentLink1Description: Manufacturer URL; ComponentLink1URL: http://www.ti.com/; ComponentLink2Description: Datasheet; ComponentLink2URL: http://www.ti.com/lit/ds/symlink/sn74aup1g57.pdf
footprint YZP0006ADAD (BGA, 6-Balls, Body 1.39x0.89mm, Pitch 0.5mm)
pins: A1 IN1 (in), A2 IN2 (in), B1 GND (power), B2 VCC (power), C1 IN0 (in), C2 Y (out)

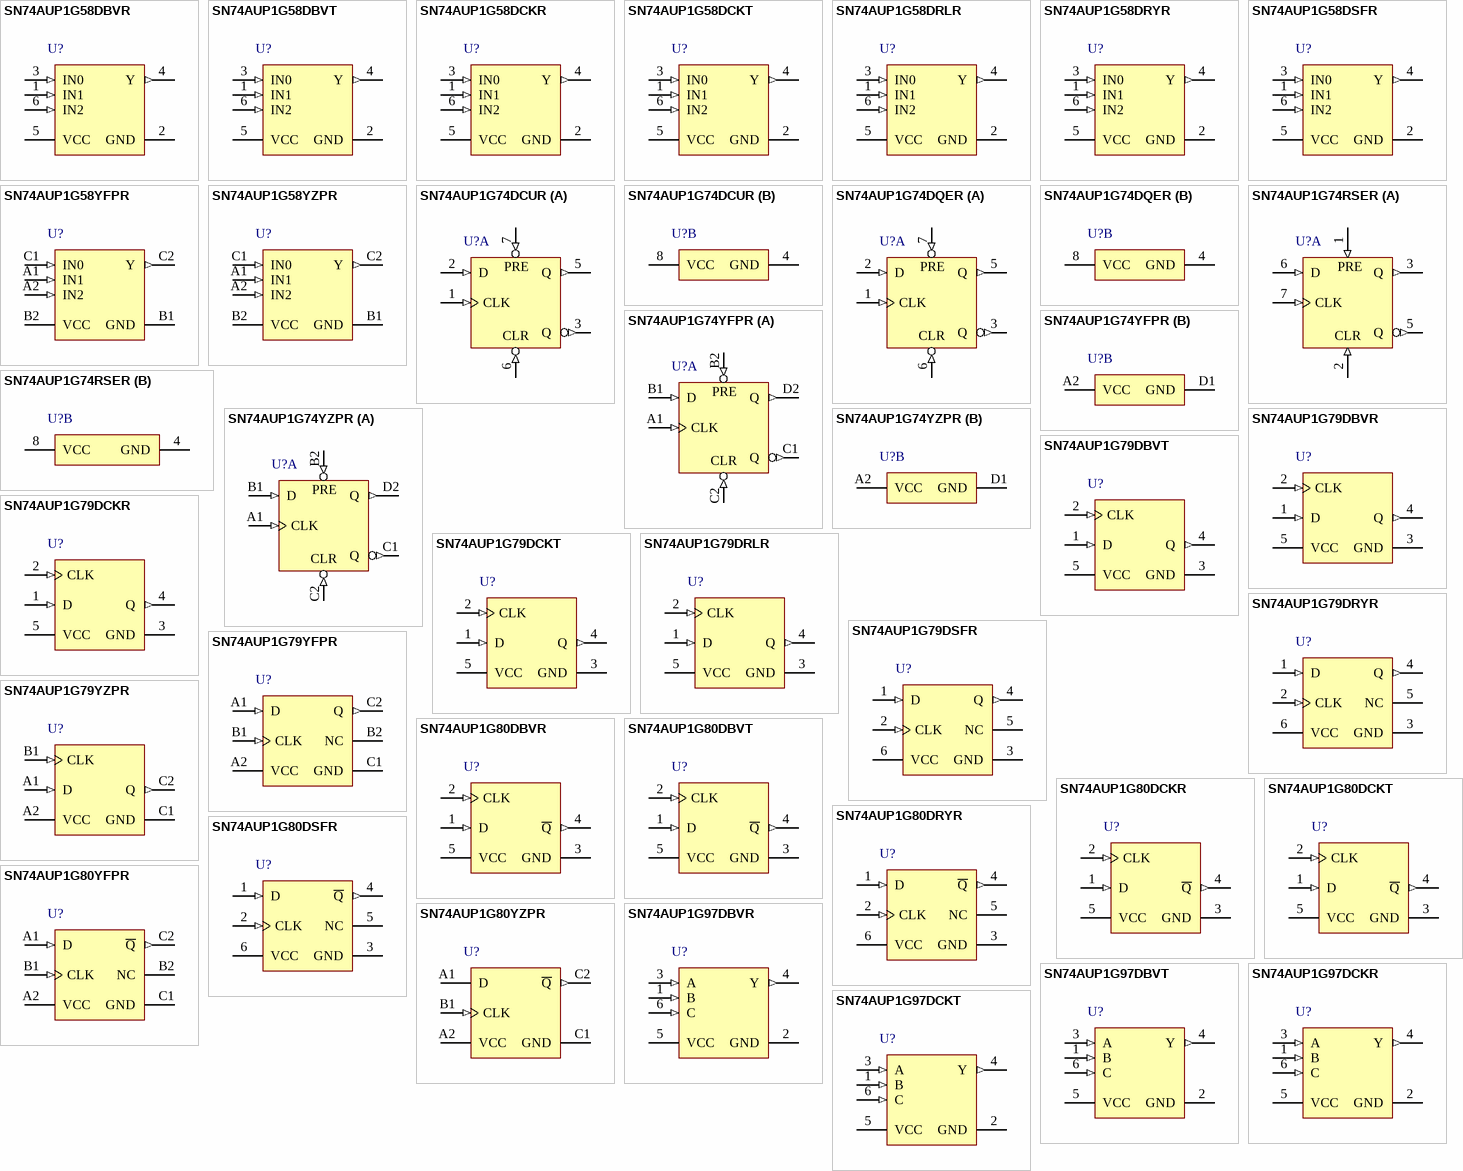
[diagram p20: symbols SN74AUP1G58DBVR to SN74AUP1G97DCKT]

## SN74AUP1G58DBVR
designator U?
Low-Power Configurable Multiple-Function Gate, DBV0006A, LARGE T&R; Generic Part Number: SN74AUP1G58; Manufacturer: Texas Instruments; PartNumber: SN74AUP1G58DBVR; VCC(Min)(V): 0.8; VCC(Max)(V): 3.6; Output Type: CMOS; ICC @ Nom Voltage(Max)(mA): 0.0009; Bits(#): 1; F @ Nom Voltage(Max)(Mhz): 100; Rating: Catalog; Technology Family: AUP; Voltage(Nom)(V): 0.8,1.2,1.5,1.8,2.5,3.3; Schmitt Trigger: No; Output Drive (IOL/IOH)(Max)(mA): 20/-20; tpd @ Nom Voltage(Max)(ns): 38.1,21.4,14.6,11.7,8.7,7.3; Logic: True; Sub-Family: Configurable Logic; DatasheetVersion: SCES504J; PackageReference: DBV0006A; Supplier 1: Mouser; Supplier Part Number 1: 595-SN74AUP1G58DBVR; Supplier 2: Digi-Key; Supplier Part Number 2: 296-16819-2-ND; Supplier 3: Digi-Key; Supplier Part Number 3: 296-16819-1-ND; Supplier 4: Digi-Key; Supplier Part Number 4: 296-16819-6-ND; Input Type: CMOS; Operating Temperature Range(C): -40 to 85; Gate Type: Configurable; 3-State Output: No; ComponentLink1Description: Manufacturer URL; ComponentLink1URL: http://www.ti.com/; ComponentLink2Description: Datasheet; ComponentLink2URL: http://www.ti.com/lit/ds/symlink/sn74aup1g58.pdf
footprint DBV0006A_N (SOT23, 6-Leads, Body 3.05x1.75mm, Pitch 0.95mm, IPC Medium Density)
footprint DBV0006A_M (SOT23, 6-Leads, Body 3.05x1.75mm, Pitch 0.95mm, IPC Low Density)
footprint DBV0006A_L (SOT23, 6-Leads, Body 3.05x1.75mm, Pitch 0.95mm, IPC High Density)
pins: 1 IN1 (in), 2 GND (power), 3 IN0 (in), 4 Y (out), 5 VCC (power), 6 IN2 (in)

## SN74AUP1G58DBVT
designator U?
Low-Power Configurable Multiple-Function Gate, DBV0006A, SMALL T&R; Generic Part Number: SN74AUP1G58; Manufacturer: Texas Instruments; PartNumber: SN74AUP1G58DBVT; VCC(Min)(V): 0.8; VCC(Max)(V): 3.6; Output Type: CMOS; ICC @ Nom Voltage(Max)(mA): 0.0009; Bits(#): 1; F @ Nom Voltage(Max)(Mhz): 100; Rating: Catalog; Technology Family: AUP; Voltage(Nom)(V): 0.8,1.2,1.5,1.8,2.5,3.3; Schmitt Trigger: No; Output Drive (IOL/IOH)(Max)(mA): 20/-20; tpd @ Nom Voltage(Max)(ns): 38.1,21.4,14.6,11.7,8.7,7.3; Logic: True; Sub-Family: Configurable Logic; DatasheetVersion: SCES504J; PackageReference: DBV0006A; Supplier 1: Mouser; Supplier Part Number 1: 595-SN74AUP1G58DBVT; Supplier 2: Digi-Key; Supplier Part Number 2: SN74AUP1G58DBVT-ND; Input Type: CMOS; Operating Temperature Range(C): -40 to 85; Gate Type: Configurable; 3-State Output: No; ComponentLink1Description: Manufacturer URL; ComponentLink1URL: http://www.ti.com/; ComponentLink2Description: Datasheet; ComponentLink2URL: http://www.ti.com/lit/ds/symlink/sn74aup1g58.pdf
footprint DBV0006A_N (SOT23, 6-Leads, Body 3.05x1.75mm, Pitch 0.95mm, IPC Medium Density)
footprint DBV0006A_M (SOT23, 6-Leads, Body 3.05x1.75mm, Pitch 0.95mm, IPC Low Density)
footprint DBV0006A_L (SOT23, 6-Leads, Body 3.05x1.75mm, Pitch 0.95mm, IPC High Density)
pins: 1 IN1 (in), 2 GND (power), 3 IN0 (in), 4 Y (out), 5 VCC (power), 6 IN2 (in)

## SN74AUP1G58DCKR
designator U?
Low-Power Configurable Multiple-Function Gate, DCK0006A, LARGE T&R; Generic Part Number: SN74AUP1G58; Manufacturer: Texas Instruments; PartNumber: SN74AUP1G58DCKR; VCC(Min)(V): 0.8; VCC(Max)(V): 3.6; Output Type: CMOS; ICC @ Nom Voltage(Max)(mA): 0.0009; Bits(#): 1; F @ Nom Voltage(Max)(Mhz): 100; Rating: Catalog; Technology Family: AUP; Voltage(Nom)(V): 0.8,1.2,1.5,1.8,2.5,3.3; Schmitt Trigger: No; Output Drive (IOL/IOH)(Max)(mA): 20/-20; tpd @ Nom Voltage(Max)(ns): 38.1,21.4,14.6,11.7,8.7,7.3; Logic: True; Sub-Family: Configurable Logic; DatasheetVersion: SCES504J; PackageReference: DCK0006A; Supplier 1: Mouser; Supplier Part Number 1: 595-SN74AUP1G58DCKR; Supplier 2: Digi-Key; Supplier Part Number 2: 296-16820-2-ND; Supplier 3: Digi-Key; Supplier Part Number 3: 296-16820-1-ND; Supplier 4: Digi-Key; Supplier Part Number 4: 296-16820-6-ND; Input Type: CMOS; Operating Temperature Range(C): -40 to 85; Gate Type: Configurable; 3-State Output: No; ComponentLink1Description: Manufacturer URL; ComponentLink1URL: http://www.ti.com/; ComponentLink2Description: Datasheet; ComponentLink2URL: http://www.ti.com/lit/ds/symlink/sn74aup1g58.pdf
footprint DCK0006A_N (SOT23, 6-Leads, Body 2.15x1.4mm, Pitch 0.65mm, IPC Medium Density)
footprint DCK0006A_M (SOT23, 6-Leads, Body 2.15x1.4mm, Pitch 0.65mm, IPC Low Density)
footprint DCK0006A_L (SOT23, 6-Leads, Body 2.15x1.4mm, Pitch 0.65mm, IPC High Density)
pins: 1 IN1 (in), 2 GND (power), 3 IN0 (in), 4 Y (out), 5 VCC (power), 6 IN2 (in)

## SN74AUP1G58DCKT
designator U?
Low-Power Configurable Multiple-Function Gate, DCK0006A, SMALL T&R; Generic Part Number: SN74AUP1G58; Manufacturer: Texas Instruments; PartNumber: SN74AUP1G58DCKT; VCC(Min)(V): 0.8; VCC(Max)(V): 3.6; Output Type: CMOS; ICC @ Nom Voltage(Max)(mA): 0.0009; Bits(#): 1; F @ Nom Voltage(Max)(Mhz): 100; Rating: Catalog; Technology Family: AUP; Voltage(Nom)(V): 0.8,1.2,1.5,1.8,2.5,3.3; Schmitt Trigger: No; Output Drive (IOL/IOH)(Max)(mA): 20/-20; tpd @ Nom Voltage(Max)(ns): 38.1,21.4,14.6,11.7,8.7,7.3; Logic: True; Sub-Family: Configurable Logic; DatasheetVersion: SCES504J; PackageReference: DCK0006A; Supplier 1: Mouser; Supplier Part Number 1: 595-SN74AUP1G58DCKT; Supplier 2: Digi-Key; Supplier Part Number 2: SN74AUP1G58DCKT-ND; Input Type: CMOS; Operating Temperature Range(C): -40 to 85; Gate Type: Configurable; 3-State Output: No; ComponentLink1Description: Manufacturer URL; ComponentLink1URL: http://www.ti.com/; ComponentLink2Description: Datasheet; ComponentLink2URL: http://www.ti.com/lit/ds/symlink/sn74aup1g58.pdf
footprint DCK0006A_N (SOT23, 6-Leads, Body 2.15x1.4mm, Pitch 0.65mm, IPC Medium Density)
footprint DCK0006A_M (SOT23, 6-Leads, Body 2.15x1.4mm, Pitch 0.65mm, IPC Low Density)
footprint DCK0006A_L (SOT23, 6-Leads, Body 2.15x1.4mm, Pitch 0.65mm, IPC High Density)
pins: 1 IN1 (in), 2 GND (power), 3 IN0 (in), 4 Y (out), 5 VCC (power), 6 IN2 (in)

## SN74AUP1G58DRLR
designator U?
Low-Power Configurable Multiple-Function Gate, DRL0006A, LARGE T&R; Generic Part Number: SN74AUP1G58; Manufacturer: Texas Instruments; PartNumber: SN74AUP1G58DRLR; VCC(Min)(V): 0.8; VCC(Max)(V): 3.6; Output Type: CMOS; ICC @ Nom Voltage(Max)(mA): 0.0009; Bits(#): 1; F @ Nom Voltage(Max)(Mhz): 100; Rating: Catalog; Technology Family: AUP; Voltage(Nom)(V): 0.8,1.2,1.5,1.8,2.5,3.3; Schmitt Trigger: No; Output Drive (IOL/IOH)(Max)(mA): 20/-20; tpd @ Nom Voltage(Max)(ns): 38.1,21.4,14.6,11.7,8.7,7.3; Logic: True; Sub-Family: Configurable Logic; DatasheetVersion: SCES504J; PackageReference: DRL0006A; Supplier 1: Mouser; Supplier Part Number 1: 595-SN74AUP1G58DRLR; Supplier 2: Digi-Key; Supplier Part Number 2: 296-18612-2-ND; Supplier 3: Digi-Key; Supplier Part Number 3: 296-18612-1-ND; Supplier 4: Digi-Key; Supplier Part Number 4: 296-18612-6-ND; Input Type: CMOS; Operating Temperature Range(C): -40 to 85; Gate Type: Configurable; 3-State Output: No; ComponentLink1Description: Manufacturer URL; ComponentLink1URL: http://www.ti.com/; ComponentLink2Description: Datasheet; ComponentLink2URL: http://www.ti.com/lit/ds/symlink/sn74aup1g58.pdf
footprint DRL0006A_N (SOT23, 6-Leads, Body 1.7x1.3mm, Pitch 0.5mm, IPC Medium Density)
footprint DRL0006A_M (SOT23, 6-Leads, Body 1.7x1.3mm, Pitch 0.5mm, IPC Low Density)
footprint DRL0006A_L (SOT23, 6-Leads, Body 1.7x1.3mm, Pitch 0.5mm, IPC High Density)
pins: 1 IN1 (in), 2 GND (power), 3 IN0 (in), 4 Y (out), 5 VCC (power), 6 IN2 (in)

## SN74AUP1G58DRYR
designator U?
Low-Power Configurable Multiple-Function Gate, DRY0006A, LARGE T&R; Generic Part Number: SN74AUP1G58; Manufacturer: Texas Instruments; PartNumber: SN74AUP1G58DRYR; VCC(Min)(V): 0.8; VCC(Max)(V): 3.6; Output Type: CMOS; ICC @ Nom Voltage(Max)(mA): 0.0009; Bits(#): 1; F @ Nom Voltage(Max)(Mhz): 100; Rating: Catalog; Technology Family: AUP; Voltage(Nom)(V): 0.8,1.2,1.5,1.8,2.5,3.3; Schmitt Trigger: No; Output Drive (IOL/IOH)(Max)(mA): 20/-20; tpd @ Nom Voltage(Max)(ns): 38.1,21.4,14.6,11.7,8.7,7.3; Logic: True; Sub-Family: Configurable Logic; DatasheetVersion: SCES504J; PackageReference: DRY0006A; Supplier 1: Mouser; Supplier Part Number 1: 595-SN74AUP1G58DRYR; Supplier 2: Digi-Key; Supplier Part Number 2: 296-27278-2-ND; Supplier 3: Digi-Key; Supplier Part Number 3: 296-27278-1-ND; Supplier 4: Digi-Key; Supplier Part Number 4: 296-27278-6-ND; Input Type: CMOS; Operating Temperature Range(C): -40 to 85; Gate Type: Configurable; 3-State Output: No; ComponentLink1Description: Manufacturer URL; ComponentLink1URL: http://www.ti.com/; ComponentLink2Description: Datasheet; ComponentLink2URL: http://www.ti.com/lit/ds/symlink/sn74aup1g58.pdf
footprint DRY0006A_V (SON, 6-Leads, Body 1.45x1mm, Pitch 0.5mm)
pins: 1 IN1 (in), 2 GND (power), 3 IN0 (in), 4 Y (out), 5 VCC (power), 6 IN2 (in)

## SN74AUP1G58DSFR
designator U?
Low-Power Configurable Multiple-Function Gate, DSF0006A, LARGE T&R; Generic Part Number: SN74AUP1G58; Manufacturer: Texas Instruments; PartNumber: SN74AUP1G58DSFR; VCC(Min)(V): 0.8; VCC(Max)(V): 3.6; Output Type: CMOS; ICC @ Nom Voltage(Max)(mA): 0.0009; Bits(#): 1; F @ Nom Voltage(Max)(Mhz): 100; Rating: Catalog; Technology Family: AUP; Voltage(Nom)(V): 0.8,1.2,1.5,1.8,2.5,3.3; Schmitt Trigger: No; Output Drive (IOL/IOH)(Max)(mA): 20/-20; tpd @ Nom Voltage(Max)(ns): 38.1,21.4,14.6,11.7,8.7,7.3; Logic: True; Sub-Family: Configurable Logic; DatasheetVersion: SCES504J; PackageReference: DSF0006A; Supplier 1: Mouser; Supplier Part Number 1: 595-SN74AUP1G58DSFR; Supplier 2: Digi-Key; Supplier Part Number 2: 296-27279-2-ND; Supplier 3: Digi-Key; Supplier Part Number 3: 296-27279-1-ND; Supplier 4: Digi-Key; Supplier Part Number 4: 296-27279-6-ND; Input Type: CMOS; Operating Temperature Range(C): -40 to 85; Gate Type: Configurable; 3-State Output: No; ComponentLink1Description: Manufacturer URL; ComponentLink1URL: http://www.ti.com/; ComponentLink2Description: Datasheet; ComponentLink2URL: http://www.ti.com/lit/ds/symlink/sn74aup1g58.pdf
footprint DSF0006A_V (SON, 6-Leads, Body 1x1mm, Pitch 0.35mm, TI Recommend)
pins: 1 IN1 (in), 2 GND (power), 3 IN0 (in), 4 Y (out), 5 VCC (power), 6 IN2 (in)

## SN74AUP1G58YFPR
designator U?
Low-Power Configurable Multiple-Function Gate, YZP0006AAAA, LARGE T&R; Generic Part Number: SN74AUP1G58; Manufacturer: Texas Instruments; PartNumber: SN74AUP1G58YFPR; VCC(Min)(V): 0.8; VCC(Max)(V): 3.6; Output Type: CMOS; ICC @ Nom Voltage(Max)(mA): 0.0009; Bits(#): 1; F @ Nom Voltage(Max)(Mhz): 100; Rating: Catalog; Technology Family: AUP; Voltage(Nom)(V): 0.8,1.2,1.5,1.8,2.5,3.3; Schmitt Trigger: No; Output Drive (IOL/IOH)(Max)(mA): 20/-20; tpd @ Nom Voltage(Max)(ns): 38.1,21.4,14.6,11.7,8.7,7.3; Logic: True; Sub-Family: Configurable Logic; DatasheetVersion: SCES504J; PackageReference: YZP0006AAAA; Supplier 1: Mouser; Supplier Part Number 1: 595-SN74AUP1G58YFPR; Supplier 2: Digi-Key; Supplier Part Number 2: 296-25397-2-ND; Supplier 3: Digi-Key; Supplier Part Number 3: 296-25397-1-ND; Supplier 4: Digi-Key; Supplier Part Number 4: 296-25397-6-ND; Input Type: CMOS; Operating Temperature Range(C): -40 to 85; Gate Type: Configurable; 3-State Output: No; ComponentLink1Description: Manufacturer URL; ComponentLink1URL: http://www.ti.com/; ComponentLink2Description: Datasheet; ComponentLink2URL: http://www.ti.com/lit/ds/symlink/sn74aup1g58.pdf
footprint YZP0006AAAA (BGA, 6-Balls, Body 1.16x0.76mm, Pitch 0.4mm)
pins: A1 IN1 (in), A2 IN2 (in), B1 GND (power), B2 VCC (power), C1 IN0 (in), C2 Y (out)

## SN74AUP1G58YZPR
designator U?
Low-Power Configurable Multiple-Function Gate, YZP0006ADAD, LARGE T&R; Generic Part Number: SN74AUP1G58; Manufacturer: Texas Instruments; PartNumber: SN74AUP1G58YZPR; VCC(Min)(V): 0.8; VCC(Max)(V): 3.6; Output Type: CMOS; ICC @ Nom Voltage(Max)(mA): 0.0009; Bits(#): 1; F @ Nom Voltage(Max)(Mhz): 100; Rating: Catalog; Technology Family: AUP; Voltage(Nom)(V): 0.8,1.2,1.5,1.8,2.5,3.3; Schmitt Trigger: No; Output Drive (IOL/IOH)(Max)(mA): 20/-20; tpd @ Nom Voltage(Max)(ns): 38.1,21.4,14.6,11.7,8.7,7.3; Logic: True; Sub-Family: Configurable Logic; DatasheetVersion: SCES504J; PackageReference: YZP0006ADAD; Supplier 1: Mouser; Supplier Part Number 1: 595-SN74AUP1G58YZPR; Supplier 2: Digi-Key; Supplier Part Number 2: 296-17368-2-ND; Supplier 3: Digi-Key; Supplier Part Number 3: 296-17368-1-ND; Input Type: CMOS; Operating Temperature Range(C): -40 to 85; Gate Type: Configurable; 3-State Output: No; ComponentLink1Description: Manufacturer URL; ComponentLink1URL: http://www.ti.com/; ComponentLink2Description: Datasheet; ComponentLink2URL: http://www.ti.com/lit/ds/symlink/sn74aup1g58.pdf
footprint YZP0006ADAD (BGA, 6-Balls, Body 1.39x0.89mm, Pitch 0.5mm)
pins: A1 IN1 (in), A2 IN2 (in), B1 GND (power), B2 VCC (power), C1 IN0 (in), C2 Y (out)

## SN74AUP1G74DCUR
designator U?
Low-Power Single Positive-Edge-Triggered D-Type Flip-Flop, DCU0008A, LARGE T&R; Generic Part Number: SN74AUP1G74; Manufacturer: Texas Instruments; PartNumber: SN74AUP1G74DCUR; VCC(Min)(V): 0.8; VCC(Max)(V): 3.6; Output Type: CMOS; ICC @ Nom Voltage(Max)(mA): 0.0009; Bits(#): 1; F @ Nom Voltage(Max)(Mhz): 100; Rating: Catalog; Technology Family: AUP; Voltage(Nom)(V): 0.8,1.2,1.5,1.8,2.5,3.3; Schmitt Trigger: No; Output Drive (IOL/IOH)(Max)(mA): 20/-20; tpd @ Nom Voltage(Max)(ns): 38,26,17,13,9,7; Logic: True; DatasheetVersion: SCES644C; PackageReference: DCU0008A; Supplier 1: Mouser; Supplier Part Number 1: 595-SN74AUP1G74DCUR; Supplier 2: Digi-Key; Supplier Part Number 2: 296-19761-2-ND; Supplier 3: Digi-Key; Supplier Part Number 3: 296-19761-1-ND; Supplier 4: Digi-Key; Supplier Part Number 4: 296-19761-6-ND; Input Type: CMOS; Operating Temperature Range(C): -40 to 85; 3-State Output: No; Sub-Family: D-Type Flip-Flop; ComponentLink1Description: Manufacturer URL; ComponentLink1URL: http://www.ti.com/; ComponentLink2Description: Datasheet; ComponentLink2URL: http://www.ti.com/lit/ds/symlink/sn74aup1g74.pdf
footprint DCU0008A_N (SOP, 8-Leads, Body 2.4x2.1mm, Pitch 0.5mm, IPC Medium Density)
footprint DCU0008A_M (SOP, 8-Leads, Body 2.4x2.1mm, Pitch 0.5mm, IPC Low Density)
footprint DCU0008A_L (SOP, 8-Leads, Body 2.4x2.1mm, Pitch 0.5mm, IPC High Density)
part A pins: 1 CLK (in) "Clock input", 2 D (in) "Input", 3 Q (out) "Inverted output", 5 Q (out) "Output", 6 ~{CLR} (in) "Clear input - Pull low to set Q output low", 7 ~{PRE} (in) "Preset input - Pull low to set Q output high"
part B pins: 4 GND (power) "Ground", 8 VCC (power) "Supply"
part A text: PRE; CLR

## SN74AUP1G74DQER
designator U?
Low-Power Single Positive-Edge-Triggered D-Type Flip-Flop, DQE0008A, LARGE T&R; Generic Part Number: SN74AUP1G74; Manufacturer: Texas Instruments; PartNumber: SN74AUP1G74DQER; VCC(Min)(V): 0.8; VCC(Max)(V): 3.6; Output Type: CMOS; ICC @ Nom Voltage(Max)(mA): 0.0009; Bits(#): 1; F @ Nom Voltage(Max)(Mhz): 100; Rating: Catalog; Technology Family: AUP; Voltage(Nom)(V): 0.8,1.2,1.5,1.8,2.5,3.3; Schmitt Trigger: No; Output Drive (IOL/IOH)(Max)(mA): 20/-20; tpd @ Nom Voltage(Max)(ns): 38,26,17,13,9,7; Logic: True; DatasheetVersion: SCES644C; PackageReference: DQE0008A; Supplier 1: Mouser; Supplier Part Number 1: 595-SN74AUP1G74DQER; Supplier 2: Digi-Key; Supplier Part Number 2: 296-25563-2-ND; Supplier 3: Digi-Key; Supplier Part Number 3: 296-25563-1-ND; Supplier 4: Digi-Key; Supplier Part Number 4: 296-25563-6-ND; Input Type: CMOS; Operating Temperature Range(C): -40 to 85; 3-State Output: No; Sub-Family: D-Type Flip-Flop; ComponentLink1Description: Manufacturer URL; ComponentLink1URL: http://www.ti.com/; ComponentLink2Description: Datasheet; ComponentLink2URL: http://www.ti.com/lit/ds/symlink/sn74aup1g74.pdf
footprint DQE0008A_V (SON, 8-Leads, Body 1.4x1mm, Pitch 0.35mm, TI Recommend)
part A pins: 1 CLK (in) "Clock input", 2 D (in) "Input", 3 Q (out) "Inverted output", 5 Q (out) "Output", 6 ~{CLR} (in) "Clear input - Pull low to set Q output low", 7 ~{PRE} (in) "Preset input - Pull low to set Q output high"
part B pins: 4 GND (power) "Ground", 8 VCC (power) "Supply"
part A text: PRE; CLR

## SN74AUP1G74RSER
designator U?
Low-Power Single Positive-Edge-Triggered D-Type Flip-Flop, RSE0008A, LARGE T&R; Generic Part Number: SN74AUP1G74; Manufacturer: Texas Instruments; PartNumber: SN74AUP1G74RSER; VCC(Min)(V): 0.8; VCC(Max)(V): 3.6; Output Type: CMOS; ICC @ Nom Voltage(Max)(mA): 0.0009; Bits(#): 1; F @ Nom Voltage(Max)(Mhz): 100; Rating: Catalog; Technology Family: AUP; Voltage(Nom)(V): 0.8,1.2,1.5,1.8,2.5,3.3; Schmitt Trigger: No; Output Drive (IOL/IOH)(Max)(mA): 20/-20; tpd @ Nom Voltage(Max)(ns): 38,26,17,13,9,7; Logic: True; DatasheetVersion: SCES644C; PackageReference: RSE0008A; Supplier 1: Mouser; Supplier Part Number 1: 595-SN74AUP1G74RSER; Supplier 2: Digi-Key; Supplier Part Number 2: 296-27280-2-ND; Supplier 3: Digi-Key; Supplier Part Number 3: 296-27280-1-ND; Supplier 4: Digi-Key; Supplier Part Number 4: 296-27280-6-ND; Input Type: CMOS; Operating Temperature Range(C): -40 to 85; 3-State Output: No; Sub-Family: D-Type Flip-Flop; ComponentLink1Description: Manufacturer URL; ComponentLink1URL: http://www.ti.com/; ComponentLink2Description: Datasheet; ComponentLink2URL: http://www.ti.com/lit/ds/symlink/sn74aup1g74.pdf
footprint RSE0008A_V (QFN, 8-Leads, Body 1.5x1.5mm, Pitch 0.5mm, TI Recommend)
part A pins: 1 ~{PRE} (in), 2 ~{CLR} (in), 3 Q (out), 5 Q (out), 6 D (in), 7 CLK (in)
part B pins: 4 GND (power), 8 VCC (power)
part A text: PRE; CLR

## SN74AUP1G74YFPR
designator U?
Low-Power Single Positive-Edge-Triggered D-Type Flip-Flop, YZP0008AAAA, LARGE T&R; Generic Part Number: SN74AUP1G74; Manufacturer: Texas Instruments; PartNumber: SN74AUP1G74YFPR; VCC(Min)(V): 0.8; VCC(Max)(V): 3.6; Output Type: CMOS; ICC @ Nom Voltage(Max)(mA): 0.0009; Bits(#): 1; F @ Nom Voltage(Max)(Mhz): 100; Rating: Catalog; Technology Family: AUP; Voltage(Nom)(V): 0.8,1.2,1.5,1.8,2.5,3.3; Schmitt Trigger: No; Output Drive (IOL/IOH)(Max)(mA): 20/-20; tpd @ Nom Voltage(Max)(ns): 38,26,17,13,9,7; Logic: True; DatasheetVersion: SCES644C; PackageReference: YZP0008AAAA; Supplier 1: Mouser; Supplier Part Number 1: 595-SN74AUP1G74YFPR; Supplier 2: Digi-Key; Supplier Part Number 2: 296-27492-2-ND; Supplier 3: Digi-Key; Supplier Part Number 3: 296-27492-1-ND; Supplier 4: Digi-Key; Supplier Part Number 4: 296-27492-6-ND; Input Type: CMOS; Operating Temperature Range(C): -40 to 85; 3-State Output: No; Sub-Family: D-Type Flip-Flop; ComponentLink1Description: Manufacturer URL; ComponentLink1URL: http://www.ti.com/; ComponentLink2Description: Datasheet; ComponentLink2URL: http://www.ti.com/lit/ds/symlink/sn74aup1g74.pdf
footprint YZP0008AAAA (BGA, 8-Balls, Body 1.56x0.76mm, Pitch 0.4mm)
part A pins: A1 CLK (in), B1 D (in), B2 ~{PRE} (in), C1 Q (out), C2 ~{CLR} (in), D2 Q (out)
part B pins: A2 VCC (power), D1 GND (power)
part A text: PRE; CLR

## SN74AUP1G74YZPR
designator U?
Low-Power Single Positive-Edge-Triggered D-Type Flip-Flop, YZP0008ADAD, LARGE T&R; Generic Part Number: SN74AUP1G74; Manufacturer: Texas Instruments; PartNumber: SN74AUP1G74YZPR; VCC(Min)(V): 0.8; VCC(Max)(V): 3.6; Output Type: CMOS; ICC @ Nom Voltage(Max)(mA): 0.0009; Bits(#): 1; F @ Nom Voltage(Max)(Mhz): 100; Rating: Catalog; Technology Family: AUP; Voltage(Nom)(V): 0.8,1.2,1.5,1.8,2.5,3.3; Schmitt Trigger: No; Output Drive (IOL/IOH)(Max)(mA): 20/-20; tpd @ Nom Voltage(Max)(ns): 38,26,17,13,9,7; Logic: True; DatasheetVersion: SCES644C; PackageReference: YZP0008ADAD; Supplier 1: Mouser; Supplier Part Number 1: 595-SN74AUP1G74YZPR; Supplier 2: Digi-Key; Supplier Part Number 2: 296-22775-2-ND; Supplier 3: Digi-Key; Supplier Part Number 3: 296-22775-1-ND; Supplier 4: Digi-Key; Supplier Part Number 4: 296-22775-6-ND; Input Type: CMOS; Operating Temperature Range(C): -40 to 85; 3-State Output: No; Sub-Family: D-Type Flip-Flop; ComponentLink1Description: Manufacturer URL; ComponentLink1URL: http://www.ti.com/; ComponentLink2Description: Datasheet; ComponentLink2URL: http://www.ti.com/lit/ds/symlink/sn74aup1g74.pdf
footprint YZP0008ADAD (BGA, 8-Balls, Body 1.89x0.89mm, Pitch 0.5mm)
part A pins: A1 CLK (in), B1 D (in), B2 ~{PRE} (in), C1 Q (out), C2 ~{CLR} (in), D2 Q (out)
part B pins: A2 VCC (power), D1 GND (power)
part A text: PRE; CLR